# Altium footprint library 105034-1001.PcbLib: 1 footprints
Each footprint in its own frame and in the unit in brackets; x right, y up, seen from the top. Pads: shape width x height; smd on the part's side, far side on the other; paste and mask are expansions set on the pad; w line width, h text height; cw(c..) or ccw(c..) is an arc to the next point about the centre after c.
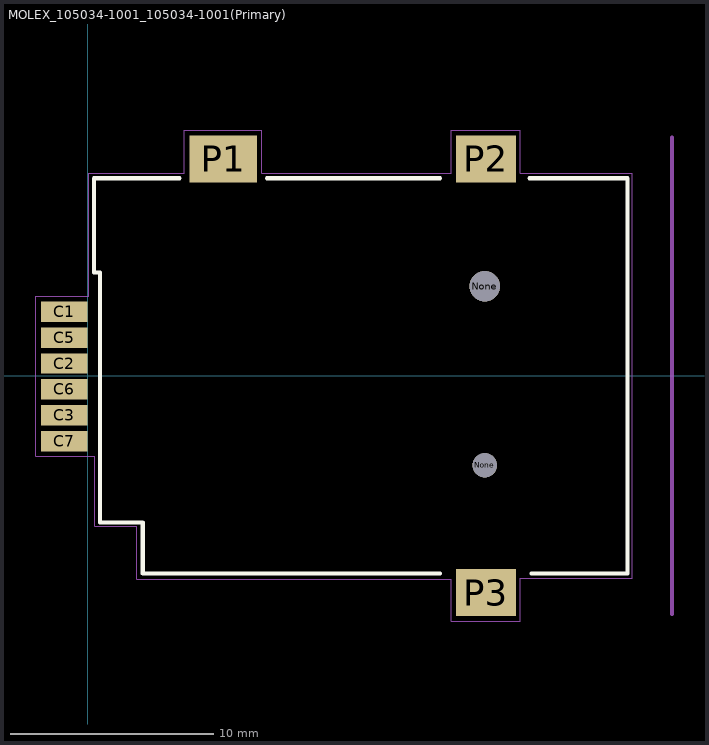
[diagram p0: the footprint, top view; thin cyan lines are the x and y axes]

## MOLEX_105034-1001_105034-1001(Primary) [mm]
pads (11):
  rect 2.3x1 smd paste-25.4 mask-25.4: C1(-1.15,3.14) C2(-1.15,0.6) C3(-1.15,-1.94) C5(-1.15,1.87) C6(-1.15,-0.67) C7(-1.15,-3.21)
  round 1.2 hole 1.2 unplated: None(19.5,-4.4)
  round 1.5 hole 1.5 unplated: None(19.5,4.4)
  rect 3.3x2.3 smd paste-25.4 mask-25.4: P1(6.65,10.65)
  rect 2.95x2.3 smd paste-25.4 mask-25.4: P2(19.55,10.65) P3(19.55,-10.65)
Top Overlay:
  lines w0.2: 4.5,9.7 0.3,9.7 0.3,5.08 0.6,5.08 0.6,-7.2 2.7,-7.2 2.7,-9.7 17.3,-9.7 ; 8.8,9.7 17.3,9.7 ; 21.7,9.7 26.5,9.7 26.5,-9.7 21.8,-9.7
Top Paste:
  region: 18.075,-11.8 21.025,-11.8 21.025,-9.5 18.075,-9.5
  region: 18.075,9.5 21.025,9.5 21.025,11.8 18.075,11.8
  region: 5,9.5 8.3,9.5 8.3,11.8 5,11.8
  region: -2.3,-3.71 0,-3.71 0,-2.71 -2.3,-2.71
  region: -2.3,-2.44 0,-2.44 0,-1.44 -2.3,-1.44
  region: -2.3,-1.17 0,-1.17 0,-0.17 -2.3,-0.17
  region: -2.3,0.1 0,0.1 0,1.1 -2.3,1.1
  region: -2.3,1.37 0,1.37 0,2.37 -2.3,2.37
  region: -2.3,2.64 0,2.64 0,3.64 -2.3,3.64
Top Solder:
  region: 17.975,-11.9 21.125,-11.9 21.125,-9.4 17.975,-9.4
  region: 17.975,9.4 21.125,9.4 21.125,11.9 17.975,11.9
  region: 4.9,9.4 8.4,9.4 8.4,11.9 4.9,11.9
  region: -2.4,-3.81 0.1,-3.81 0.1,-2.61 -2.4,-2.61
  region: -2.4,-2.54 0.1,-2.54 0.1,-1.34 -2.4,-1.34
  region: -2.4,-1.27 0.1,-1.27 0.1,-0.07 -2.4,-0.07
  region: -2.4,0 0.1,0 0.1,1.2 -2.4,1.2
  region: -2.4,1.27 0.1,1.27 0.1,2.47 -2.4,2.47
  region: -2.4,2.54 0.1,2.54 0.1,3.74 -2.4,3.74
Mechanical 1:
  lines w0.05: -2.55,-3.95 -2.55,3.9 0.05,3.9 0.05,9.95 4.75,9.95 4.75,12.05 8.55,12.05 8.55,9.95 17.85,9.95 17.85,12.05 21.25,12.05 21.25,9.95 26.75,9.95 26.75,-9.95 21.25,-9.95 21.25,-12.05 17.85,-12.05 17.85,-10 2.4,-10 2.4,-7.4 0.35,-7.4 0.35,-3.95 -2.55,-3.95
  lines w0.2: 28.7,-11.7 28.7,11.7